# Altium footprint library TVR.PcbLib: 17 footprints (part 1 of 2)
Each footprint in its own frame and in the unit in brackets; x right, y up, seen from the top. Pads: shape width x height; smd on the part's side, far side on the other; paste and mask are expansions set on the pad; w line width, h text height; cw(c..) or ccw(c..) is an arc to the next point about the centre after c.
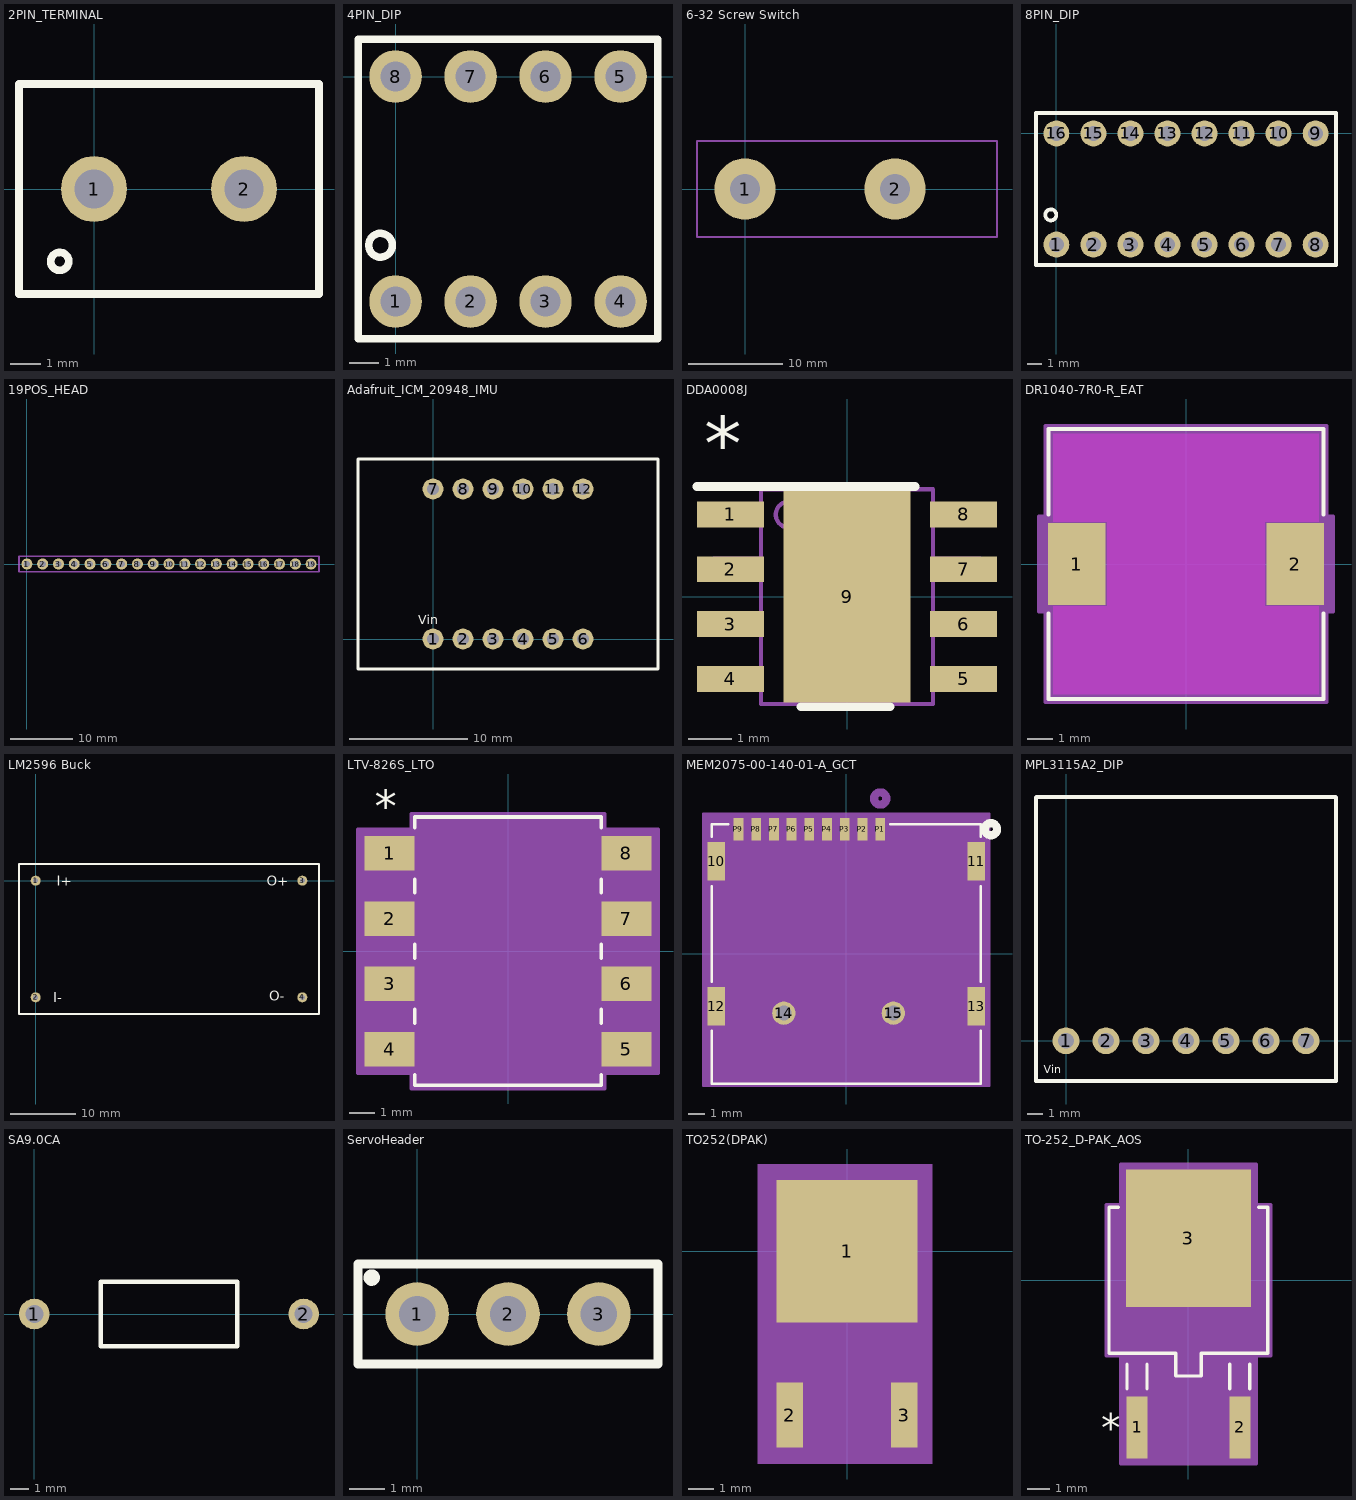
[diagram p0: the footprints below, top view; thin cyan lines are the x and y axes]

## 2PIN_TERMINAL [mm]
pads (2):
  round 2.2 hole 1.3: 1(0,0) 2(5,0)
Top Overlay:
  circle w0.254: c-1.143,-2.413 r0.3
  lines w0.254: -2.5,-3.5 7.5,-3.5 7.5,3.5 -2.5,3.5 -2.5,-3.5

## 4PIN_DIP [mil]
pads (8):
  round 70 hole 40: 1(0,-300) 2(100,-300) 3(200,-300) 4(300,-300) 5(300,0) 6(200,0) 7(100,0) 8(0,0)
Top Overlay:
  circle w10: c-20,-225 r15.81
  lines w10: -50,-350 -50,50 350,50 350,-350 -50,-350

## 6-32 Screw Switch [mil]
pads (2):
  round 255 hole 125: 1(0,0) 2(625,0)
Mechanical 13:
  lines w10: -200,-200 1050,-200 1050,200 -200,200 -200,-200

## 8PIN_DIP [mil] "3/8 spacing"
pads (16):
  round 70 hole 40: 1(0,-300) 2(100,-300) 3(200,-300) 4(300,-300) 5(400,-300) 6(500,-300) 7(600,-300) 8(700,-300) 9(700,0) 10(600,0) 11(500,0) 12(400,0) 13(300,0) 14(200,0) 15(100,0) 16(0,0)
Top Overlay:
  circle w10: c-15,-220 r15
  lines w10: -55,-355 755,-355 755,55 -55,55 -55,-355

## 19POS_HEAD [mil]
pads (19):
  round 70 hole 40: 1(0,0) 2(100,0) 3(200,0) 4(300,0) 5(400,0) 6(500,0) 7(600,0) 8(700,0) 9(800,0) 10(900,0) 11(1000,0) 12(1100,0) 13(1200,0) 14(1300,0) 15(1400,0) 16(1500,0) 17(1600,0) 18(1700,0) 19(1800,0)
Mechanical 13:
  lines w10: -50,-50 -50,50 1850,50 1850,-50 -50,-50

## Adafruit_ICM_20948_IMU [mil]
pads (12):
  round 70 hole 40: 1(0,0) 2(100,0) 3(200,0) 4(300,0) 5(400,0) 6(500,0) 7(0,500) 8(100,500) 9(200,500) 10(300,500) 11(400,500) 12(500,500)
Top Overlay:
  lines w10: -250,-100 750,-100 750,600 -250,600 -250,-100
  text "Vin" at -50,50 h30

## DDA0008J [mm]
pads (9):
  rect 1.55x0.6 smd paste+0 mask+0.051: 1(-2.7,1.905) 2(-2.7,0.635) 3(-2.7,-0.635) 4(-2.7,-1.905) 5(2.7,-1.905) 6(2.7,-0.635) 7(2.7,0.635) 8(2.7,1.905)
  rect 2.95x4.9 smd paste-2.437 mask-2.438: 9(0,0)
Top Overlay:
  lines w0.2: -3.475,2.55 1.579,2.55 ; -1.075,-2.55 1,-2.55
  text "*" at -3.302,2.921 h1.27
Mechanical 13:
  circle w0.1: c-1.35,1.9 r0.3
  lines w0.1: -3.099,-2.146 -1.994,-2.146 -1.994,-1.664 -3.099,-1.664 -3.099,-2.146 ; -3.099,-0.876 -1.994,-0.876 -1.994,-0.394 -3.099,-0.394 -3.099,-0.876 ; -3.099,0.394 -1.994,0.394 -1.994,0.876 -3.099,0.876 -3.099,0.394 ; -3.099,1.664 -1.994,1.664 -1.994,2.146 -3.099,2.146 -3.099,1.664 ; -1.994,-2.489 -1.994,2.489 1.994,2.489 1.994,-2.489 -1.994,-2.489 ; 1.994,-2.146 3.099,-2.146 3.099,-1.664 1.994,-1.664 1.994,-2.146 ; 1.994,-0.876 3.099,-0.876 3.099,-0.394 1.994,-0.394 1.994,-0.876 ; 1.994,0.394 3.099,0.394 3.099,0.876 1.994,0.876 1.994,0.394 ; 1.994,1.664 3.099,1.664 3.099,2.146 1.994,2.146 1.994,1.664

## DR1040-7R0-R_EAT [mil]
pads (2):
  rect 89x126 smd paste+0 mask+0: 1(-168.19,0) 2(168.19,0)
Top Layer keep-out:
  region: -204.69,-201 -204.69,-65 204.69,-65 204.69,-201
  region: -204.69,65 -204.69,201 204.69,201 204.69,65
  region: -121.69,-65 -121.69,65 121.69,65 121.69,-65
Top Overlay:
  lines w6: -211.69,-76.1 -211.69,-208 211.69,-208 211.69,-76.1 ; -211.69,76.1 -211.69,208 211.69,208 211.69,76.1
Keep-Out Layer:
  region: -121.69,-65 -121.69,65 121.69,65 121.69,-65
Mechanical 13:
  lines w1: -216.69,-213 216.69,-213 216.69,213 -216.69,213 -216.69,-213 ; -206.69,-203 -206.69,203 206.69,203 206.69,-203 -206.69,-203
Mechanical 15:
  region: -216.69,-73 -226.69,-73 -226.69,73 -216.69,73 -216.69,213 216.69,213 216.69,73 226.69,73 226.69,-73 216.69,-73 216.69,-213 -216.69,-213
  lines w6: -226.69,-73 -216.69,-73 -216.69,-213 216.69,-213 216.69,-73 226.69,-73 226.69,73 216.69,73 216.69,213 -216.69,213 -216.69,73 -226.69,73 -226.69,-73
3D body "DR1040-7R0-R_EAT.step": height 157.01, standoff 0, extent -227.36,-228.66 227.36,228.66

## LM2596 Buck [mil]
pads (4):
  round 60 hole 30: 1(0,0) 2(0,-700) 3(1600,0) 4(1600,-700)
Top Overlay:
  lines w10: -100,-800 1700,-800 1700,100 -100,100 -100,-800
  text "O-" at 1400,-720 h60
  text "O+" at 1385,-30 h60
  text "I-" at 105,-730 h60
  text "I+" at 125,-30 h60

## LTV-826S_LTO [mil]
pads (8):
  rect 77x53 smd paste+0 mask+0: 1(-181.5,150) 2(-181.5,50) 3(-181.5,-50) 4(-181.5,-150) 5(181.5,-150) 6(181.5,-50) 7(181.5,50) 8(181.5,150)
Top Overlay:
  lines w6: -143,-189.6 -143,-205.5 143,-205.5 143,-189.6 ; -143,-110.4 -143,-89.6 ; -143,-10.4 -143,10.4 ; -143,89.6 -143,110.4 ; -143,189.6 -143,205.5 143,205.5 143,189.6 ; 143,-110.4 143,-89.6 ; 143,-10.4 143,10.4 ; 143,89.6 143,110.4
  text "*" at -204,198 h50
Mechanical 13:
  lines w0: -12,200.5 ccw(c0,200.5) 12,200.5
  lines w1: -206,-175.5 -138,-175.5 -138,-124.5 -206,-124.5 -206,-175.5 ; -206,-75.5 -138,-75.5 -138,-24.5 -206,-24.5 -206,-75.5 ; -206,24.5 -138,24.5 -138,75.5 -206,75.5 -206,24.5 ; -206,124.5 -138,124.5 -138,175.5 -206,175.5 -206,124.5 ; -138,-200.5 -138,200.5 138,200.5 138,-200.5 -138,-200.5 ; 138,-175.5 206,-175.5 206,-124.5 138,-124.5 138,-175.5 ; 138,-75.5 206,-75.5 206,-24.5 138,-24.5 138,-75.5 ; 138,24.5 206,24.5 206,75.5 138,75.5 138,24.5 ; 138,124.5 206,124.5 206,175.5 138,175.5 138,124.5
  text "*" at -135.5,147.5 h50
Mechanical 15:
  region: -148,-186.5 -230,-186.5 -230,186.5 -148,186.5 -148,210.5 148,210.5 148,186.5 230,186.5 230,-186.5 148,-186.5 148,-210.5 -148,-210.5
  lines w6: -230,-186.5 -148,-186.5 -148,-210.5 148,-210.5 148,-186.5 230,-186.5 230,186.5 148,186.5 148,210.5 -148,210.5 -148,186.5 -230,186.5 -230,-186.5
3D body "LTV-826S_LTO.step": height 181.1, standoff 0, extent -205.98,-200.51 205.98,200.51

## MEM2075-00-140-01-A_GCT [mil]
pads (15):
  rect 43x94 smd paste-47 mask-47: 10(-317.91,226.17) 11(317.91,226.17) 12(-317.91,-128.16) 13(317.91,-128.16)
  round 57 / inner round 60 / far side round 57 hole 37 paste-99999 mask-28.5: 14(-152.56,-144.69) 15(115.16,-144.69)
  rect 24x55 smd paste+0 mask+0: P1(82.87,304.91) P2(39.57,304.91) P3(-3.74,304.91) P4(-47.05,304.91) P5(-90.35,304.91) P6(-133.66,304.91) P7(-176.97,304.91) P8(-220.28,304.91) P9(-263.58,304.91)
Top Overlay:
  lines w6: -328.5,-188.26 -328.5,-317 328.5,-317 328.5,-188.26 ; -328.5,-68.06 -328.5,166.07 ; -328.5,286.27 -328.5,317 -288.68,317 ; 107.97,317 328.5,317 328.5,286.27 ; 328.5,-68.06 328.5,166.07
  lines w20: 345.19,292.42 cw(c353.5,304.91) 368.5,304.91 cw(c353.5,304.91) 349.81,290.37
Bottom Overlay:
  circle w20: c353.5,304.91 r15
Mechanical 13:
  circle w20: c82.87,379.91 r15
  lines w1: -323.5,-312 323.5,-312 323.5,312 -323.5,312 -323.5,-312
Mechanical 15:
  region: 349.41,342.41 -349.41,342.41 -349.41,-322 349.41,-322
  lines w6: -349.41,-322 -349.41,342.41 349.41,342.41 349.41,-322 -349.41,-322

## MPL3115A2_DIP [mm] "adafruit package"
pads (7):
  round 1.7 hole 1: 1(0,0) 2(2.54,0) 3(5.08,0) 4(7.62,0) 5(10.16,0) 6(12.7,0) 7(15.24,0)
Top Overlay:
  lines w0.254: -1.905,-2.54 -1.905,15.46 ; -1.88,-2.55 17.12,-2.55 ; -1.88,15.484 17.12,15.484 ; 17.145,-2.54 17.145,15.46
  text "Vin" at -1.424,-2.059 h0.5

## SA9.0CA [mm] "tvs diode"
pads (2):
  round 1.7 hole 1: 1(0,0) 2(15,0)
Top Overlay:
  lines w0.254: 3.7,-1.8 3.7,1.8 11.3,1.8 11.3,-1.8 3.7,-1.8

## ServoHeader [mil]
pads (3):
  round 70 hole 40: 1(0,0) 2(100,0) 3(200,0)
Top Overlay:
  circle w10: c-50,40 r4
  lines w10: -65,-55 265,-55 265,55 -65,55 -65,-55

## TO252(DPAK) [mm]
pads (3):
  rect 5.632x5.7 smd: 1(0,0)
  rect 1.06x2.6 smd: 2(-2.286,-6.55) 3(2.286,-6.55)
Mechanical 15:
  rectangle: -3.571,-8.509 3.429,3.491
3D body "AOD4189.step": height 2.4, standoff -0.2, extent -3.302,-7.429 3.302,2.603

## TO-252_D-PAK_AOS [mil]
pads (3):
  rect 37x108 smd paste+0 mask+0: 1(-90,-257.5) 2(90,-257.5)
  rect 219x240 smd paste+0 mask+0: 3(0,73.5)
Top Overlay:
  lines w6: -122.6,127.5 -139,127.5 -139,-127.5 -22.5,-127.5 -22.5,-167.5 22.5,-167.5 22.5,-127.5 139,-127.5 139,127.5 122.6,127.5 ; -107.5,-189.5 -107.5,-146.5 ; -72.5,-189.5 -72.5,-146.5 ; 72.5,-189.5 72.5,-146.5 ; 107.5,-189.5 107.5,-146.5
  text "*" at -152.5,-282.5 h50
Mechanical 13:
  lines w1: -134,-122.5 134,-122.5 134,122.5 -134,122.5 -134,-122.5 ; -107.5,-297.5 -107.5,-122.5 -72.5,-122.5 -72.5,-297.5 -107.5,-297.5 ; -17.5,-162.5 -17.5,-122.5 17.5,-122.5 17.5,-162.5 -17.5,-162.5 ; 72.5,-297.5 72.5,-122.5 107.5,-122.5 107.5,-297.5 72.5,-297.5
  text "*" at -102.5,-137.5 h50
Mechanical 15:
  region: -144,-132.5 -144,132.5 -118.5,132.5 -118.5,203.5 118.5,203.5 118.5,132.5 144,132.5 144,-132.5 118.5,-132.5 118.5,-321.5 -118.5,-321.5 -118.5,-132.5
  lines w6: -144,-132.5 -144,132.5 -118.5,132.5 -118.5,203.5 118.5,203.5 118.5,132.5 144,132.5 144,-132.5 118.5,-132.5 118.5,-321.5 -118.5,-321.5 -118.5,-132.5 -144,-132.5
3D body "AOD4189.step": height 94.49, standoff -7.87, extent -130,-235 130,160